# EAGLE library part DAC082S085 (library National Semiconductor)
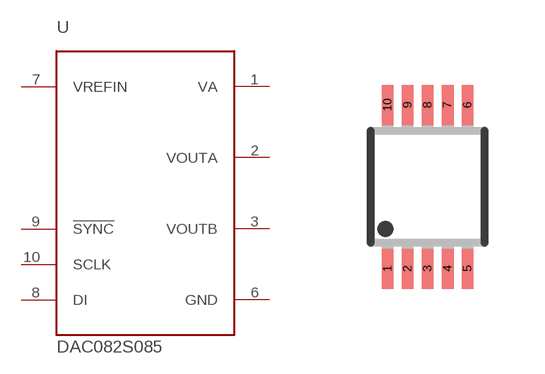
[diagram p2: symbol with the pads of MSOP10; footprint MSOP10]

Designator prefix -

## DAC082S085  [MSOP10]
1  VA  pwr
2  VOUTA  out
3  VOUTB  out
6  GND  pwr
7  VREFIN  in
8  DI  in
9  !SYNC  in
10  SCLK  in

## Footprint MSOP10 (pad centres in mm)
10 Lead Platic MSOP Source: http://www.linear.com .. LT1996
smd 0.3 x 1: 1 -1,-2.05; 2 -0.5,-2.05; 3 0,-2.05; 4 0.5,-2.05; 5 1,-2.05; 6 1,2.05; 7 0.5,2.05; 8 0,2.05; 9 -0.5,2.05; 10 -1,2.05